# EAGLE library part SMSWITCHSMXS-04K-TP (library LARS_409_SWITCH)
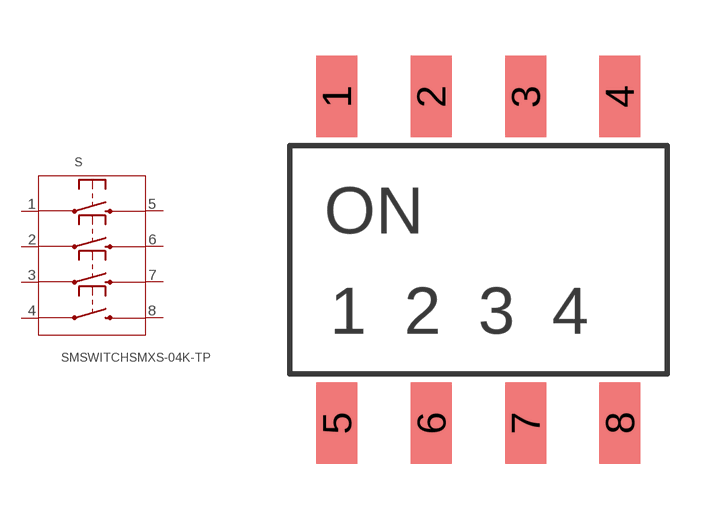
[diagram p2: symbol with the pads of SMSWITCHSMXS-04K-TP; footprint SMSWITCHSMXS-04K-TP]

Designator prefix S

## SMSWITCHSMXS-04K-TP  [SMSWITCHSMXS-04K-TP]
1  1  pas
2  2  pas
3  3  pas
4  4  pas
5  5  pas
6  6  pas
7  7  pas
8  8  pas

## Footprint SMSWITCHSMXS-04K-TP (pad centres in mm)
smd 1.1 x 2.2: 1 -3.81,4.4; 2 -1.27,4.4; 3 1.27,4.4; 4 3.81,4.4; 5 -3.81,-4.4; 6 -1.27,-4.4; 7 1.27,-4.4; 8 3.81,-4.4